# Altium footprint library PCB Passives.PcbLib: 47 footprints (part 1 of 3)
Each footprint in its own frame and in the unit in brackets; x right, y up, seen from the top. Pads: shape width x height; smd on the part's side, far side on the other; paste and mask are expansions set on the pad; w line width, h text height; cw(c..) or ccw(c..) is an arc to the next point about the centre after c.
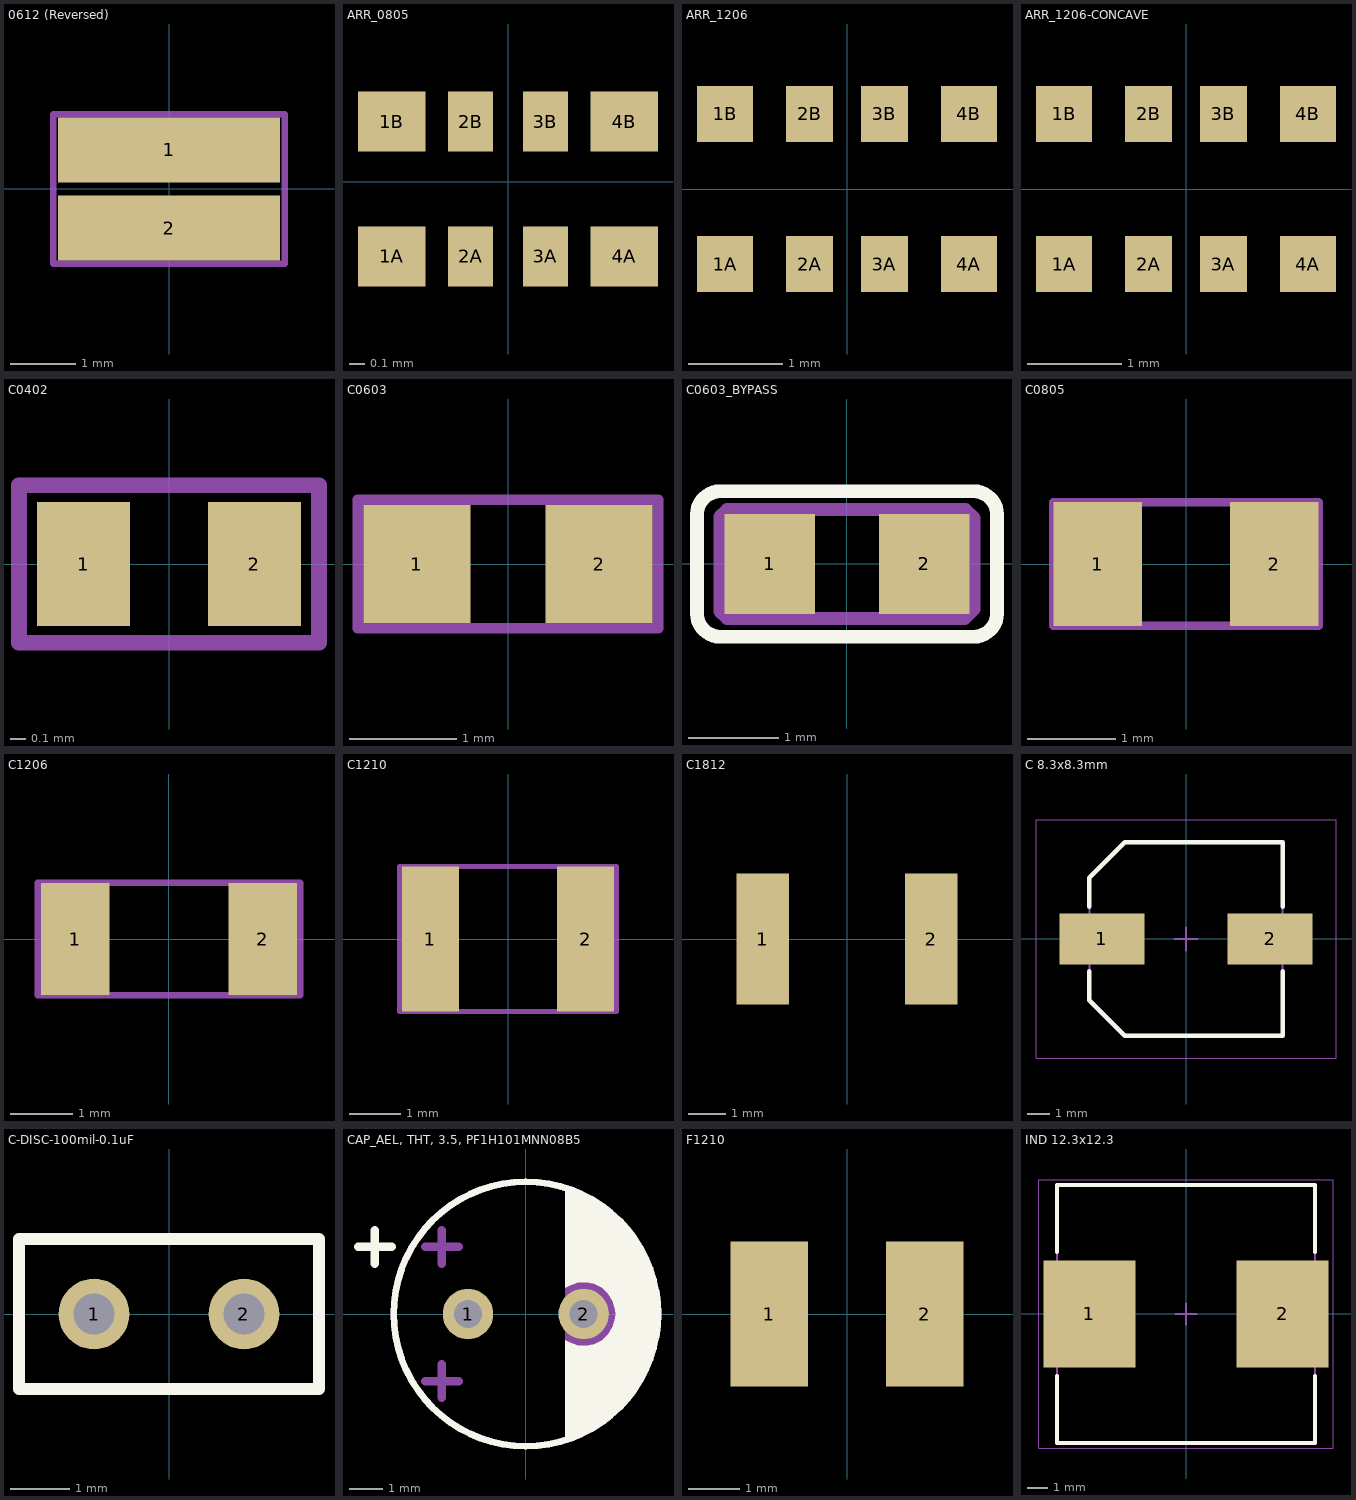
[diagram p0: the footprints below, top view; thin cyan lines are the x and y axes]

## 0612 (Reversed) [mm] "Chip Resistor, 2-Leads, Body 1,60x3,20mm, IPC Medium Density"
height 0.6
pads (2):
  rect 3.4x1 smd: 1(0,0.6) 2(0,-0.6)
Mechanical 29:
  lines w0.1: -1.778,-1.143 -1.778,1.143 1.778,1.143 1.778,-1.143 -1.778,-1.143
  text ".Designator" at -1.165,-0.3 h0.7
3D body "RESC1632X06N.step": height 0.6, standoff 0, extent -1.7,-0.9 1.7,0.9

## ARR_0805 [mm]
pads (8):
  rect 0.45x0.4 smd: 1A(-0.775,-0.5) 1B(-0.775,0.4) 4A(0.775,-0.5) 4B(0.775,0.4)
  rect 0.3x0.4 smd: 2A(-0.25,-0.5) 2B(-0.25,0.4) 3A(0.25,-0.5) 3B(0.25,0.4)
3D body "User Library-YC124.step": height 0.36, standoff 0, extent -1,-0.55 1,0.45

## ARR_1206 [mm]
height 0.6
pads (8):
  rect 0.6x0.6 smd: 1A(-1.3,-0.8) 1B(-1.3,0.8) 4A(1.3,-0.8) 4B(1.3,0.8)
  rect 0.5x0.6 smd: 2A(-0.4,-0.8) 2B(-0.4,0.8) 3A(0.4,-0.8) 3B(0.4,0.8)
3D body "User Library-YC164.step": height 0.55, standoff 0, extent -1.6,-0.8 1.6,0.8

## ARR_1206-CONCAVE [mm]
height 0.6
pads (8):
  rect 0.6x0.6 smd: 1A(-1.3,-0.8) 1B(-1.3,0.8) 4A(1.3,-0.8) 4B(1.3,0.8)
  rect 0.5x0.6 smd: 2A(-0.4,-0.8) 2B(-0.4,0.8) 3A(0.4,-0.8) 3B(0.4,0.8)
3D body "CAT16-x4.stp": height 0.6, standoff 0, extent -1.775,-0.825 1.575,0.925

## C0402 [mm] "0402 ceramic capacitor"
pads (2):
  rect 0.6x0.8 smd: 1(-0.55,0) 2(0.55,0)
Mechanical 29:
  lines w0.1: -0.965,-0.508 -0.965,0.508 0.965,0.508 0.965,-0.508 -0.965,-0.508
  text ".Designator" at -0.787,-0.279 h0.6
3D body "CAP_0402.step": height 0.5, standoff 0, extent -0.5,-0.25 0.5,0.25

## C0603 [mm] "0603 ceramic capacitor"
pads (2):
  rect 1x1.1 smd: 1(-0.85,0) 2(0.85,0)
Mechanical 29:
  lines w0.1: -1.4,-0.6 -1.4,0.6 1.4,0.6 1.4,-0.6 -1.4,-0.6
  text ".Designator" at -1.2,-0.2 h0.6
3D body "CAP_0603.step": height 0.8, standoff 0, extent -0.8,-0.4 0.8,0.4

## C0603_BYPASS [mm] "0603 ceramic capacitor"
pads (2):
  rect 1x1.1 smd: 1(-0.85,0) 2(0.85,0)
Top Overlay:
  lines w0.152: -1.651,-0.546 ccw(c-1.397,-0.546) -1.397,-0.8 1.397,-0.8 ccw(c1.397,-0.546) 1.651,-0.546 1.651,0.546 ccw(c1.397,0.546) 1.397,0.8 -1.397,0.8 ccw(c-1.397,0.546) -1.651,0.546 -1.651,-0.546
Mechanical 29:
  lines w0.14: -1.4,-0.521 -1.4,0.521 -1.321,0.6 1.305,0.6 1.4,0.505 1.4,-0.495 1.295,-0.6 -1.321,-0.6 -1.4,-0.521
  text ".Designator" at -0.635,-0.254 h0.51
3D body "CAP_0603.step": height 0.8, standoff 0, extent -0.8,-0.4 0.8,0.4

## C0805 [mm] "0805 ceramic capacitor"
pads (2):
  rect 1x1.4 smd: 1(-1,0) 2(1,0)
Mechanical 29:
  lines w0.1: -1.5,-0.7 1.5,-0.7 1.5,0.7 -1.5,0.7 -1.5,-0.7
  text ".Designator" at -1.3,-0.2 h0.6
3D body "CAP_0805.step": height 0.6, standoff 0, extent -1,-0.625 1,0.625

## C1206 [mm] "1206 ceramic capacitor"
pads (2):
  rect 1.1x1.8 smd: 1(-1.5,0) 2(1.5,0)
Mechanical 29:
  lines w0.1: -2.1,-0.9 -2.1,0.9 2.1,0.9 2.1,-0.9 -2.1,-0.9
  text ".Designator" at -1.8,-0.233 h0.7
3D body "CAP_1206.step": height 0.76, standoff -0.01, extent -1.6,-0.8 1.6,0.8

## C1210 [mm] "1210 capacitor"
pads (2):
  rect 1.1x2.8 smd: 1(-1.5,0) 2(1.5,0)
Mechanical 29:
  lines w0.1: -2.1,-1.4 2.1,-1.4 2.1,1.4 -2.1,1.4 -2.1,-1.4
  text ".Designator" at -1.8,-0.4 h0.8
3D body "User Library-SMD CAPACITOR.step": height 0.77, standoff -0.01, extent -1.6,-1.25 1.6,1.25

## C1812 [mm] "1812 capacitor"
pads (2):
  rect 1.4x3.5 smd: 1(-2.25,0) 2(2.25,0)
3D body "User Library-SMD CAPACITOR(1).step": height 1, standoff 0, extent -2.25,-1.6 2.25,1.6

## C 8.3x8.3mm [mm] "Aluminum Electrolytic Capacitor, Body 8.30x8.30x11.70mm, IPC Low Density"
height 11.7
pads (2):
  rect 3.75x2.25 smd: 1(-3.7,0) 2(3.7,0)
Top Overlay:
  lines w0.2: -4.25,-1.425 -4.25,-2.688 -2.688,-4.25 4.25,-4.25 4.25,-1.425 ; -4.25,1.425 -4.25,2.687 -2.688,4.25 4.25,4.25 4.25,1.425
Mechanical 13:
  lines w0.1: -4.25,-2.688 -2.688,-4.25 4.25,-4.25 4.25,4.25 -2.688,4.25 -4.25,2.687 -4.25,-2.688
Mechanical 15:
  lines w0.05: -6.6,-5.25 -6.6,5.25 6.6,5.25 6.6,-5.25 -6.6,-5.25
  lines w0.1: -0.5,0 0.5,0 ; 0,-0.5 0,0.5
3D body: height 3.9, standoff 0, extent -4.25,-4.25 4.25,4.25
3D body: height 11.7, standoff 0, extent -4.25,-4.25 4.25,4.247

## C-DISC-100mil-0.1uF [mm]
pads (2):
  round 1.2 hole 0.7: 1(-1.27,0) 2(1.27,0)
Top Overlay:
  lines w0.2: -2.54,-1.27 2.54,-1.27 2.54,1.27 -2.54,1.27 -2.54,-1.27
3D body "10pF Ceramic Disc 2.STEP": height 6.16, standoff -7.87, extent -2.35,-1.25 2.35,1.25

## CAP_AEL, THT, 3.5, PF1H101MNN08B5 [mm] "Capacitor: electrolytic; THT; 100uF; 50VDC; ¨8x11.5mm; Pitch:3.5mm"
pads (2):
  round 1.524 hole 0.85 paste-3: 1(-1.75,0) 2(1.75,0)
Top Overlay:
  circle w0.2: c0,0 r4
  region: 1.75,0
  region: 2.718,0 4,0 4,-0.318 3.9,-0.945 3.702,-1.548 3.411,-2.113 3.035,-2.625 2.583,-3.071 2.066,-3.44 1.497,-3.723 1.194,-3.818 1.194,-0.792 1.307,-0.86 1.555,-0.948 1.818,-0.965 2.075,-0.911 2.309,-0.79 2.501,-0.61 2.638,-0.385 2.709,-0.132
  region: 2.718,0 4,0 4,0.318 3.9,0.945 3.702,1.548 3.411,2.113 3.035,2.625 2.583,3.071 2.066,3.44 1.497,3.723 1.194,3.818 1.194,0.792 1.307,0.86 1.555,0.948 1.818,0.965 2.075,0.911 2.309,0.79 2.501,0.61 2.638,0.385 2.709,0.132
  lines w0.254: -5.08,2.032 -4.064,2.032 ; -4.572,1.524 -4.572,2.54
Mechanical 29:
  circle w0.2: c0,0 r4
  region: 1.194,3.817 1.497,3.723 2.066,3.44 2.583,3.071 3.035,2.625 3.411,2.113 3.702,1.548 3.9,0.945 4,0.317 4,-0.318 3.9,-0.945 3.702,-1.548 3.411,-2.113 3.035,-2.625 2.583,-3.071 2.066,-3.44 1.497,-3.723 1.194,-3.818
  region: 1.75,0
  lines w0.254: -3.048,-2.032 -2.032,-2.032 ; -3.048,2.032 -2.032,2.032 ; -2.54,-2.54 -2.54,-1.524 ; -2.54,1.524 -2.54,2.54
3D body "User Library-Cap electro 8x11_5x3_5mm.step": height 11.93, standoff -3.58, extent -4.025,-4.025 4.026,4.026

## F1210 [mm]
pads (2):
  rect 1.5x2.8 smd: 1(-1.5,0) 2(1.5,0)
3D body "User Library-Fuse1210.step": height 0.67, standoff 0, extent -1.607,-1.287 1.608,1.288

## IND 12.3x12.3 [mm] "Precision Wire Wound Inductor, 2-Leads, Body 12.30x12.30mm, IPC Medium Density"
height 6
pads (2):
  rect 4.4x5.1 smd: 1(-4.6,0) 2(4.6,0)
Top Overlay:
  lines w0.2: -6.15,-2.95 -6.15,-6.15 6.15,-6.15 6.15,-2.95 ; -6.15,2.95 -6.15,6.15 6.15,6.15 6.15,2.95
Mechanical 13:
  lines w0.1: -6.15,-6.15 6.15,-6.15 6.15,6.15 -6.15,6.15 -6.15,-6.15
Mechanical 15:
  lines w0.05: -7.025,-6.4 7.025,-6.4 7.025,6.4 -7.025,6.4 -7.025,-6.4
  lines w0.1: -0.5,0 0.5,0 ; 0,-0.5 0,0.5
3D body: height 6, standoff 0, extent -6.15,-6.15 6.15,6.15